# Altium footprint library DS1069-2 M.PcbLib: 1 footprints
Each footprint in its own frame and in the unit in brackets; x right, y up, seen from the top. Pads: shape width x height; smd on the part's side, far side on the other; paste and mask are expansions set on the pad; w line width, h text height; cw(c..) or ccw(c..) is an arc to the next point about the centre after c.
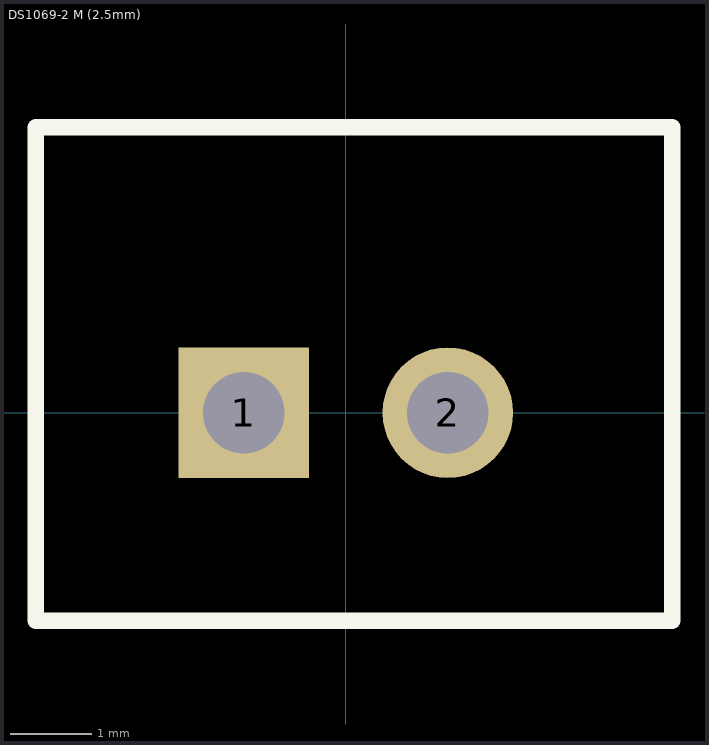
[diagram p0: the footprint, top view; thin cyan lines are the x and y axes]

## DS1069-2 M (2.5mm) [mm]
pads (2):
  rect 1.6x1.6 hole 1: 1(-1.25,0)
  round 1.6 hole 1: 2(1.25,0)
Top Overlay:
  lines w0.2: -3.8,-2.55 4,-2.55 4,3.5 -3.8,3.5 -3.8,-2.55
  text "." at -4.314,-0.199 h3
Mechanical 13:
  text ".Designator" at -2,-3.438 h1.52
3D body "DS1069-2M (2.5mm).STEP": height 7, standoff -3.4, extent -3.625,-2.375 3.875,3.375